# Altium schematic symbol library MF72-001P5D15.SchLib: 1 symbol
Pins are listed as number, name and electrical type; pins without a type are passive.

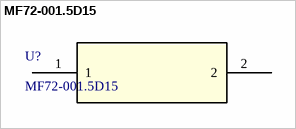
[diagram p0: symbol MF72-001.5D15]

## MF72-001.5D15
designator U?
Description; Manufacturer_Name: CANTHERM; Copyright: Copyright (C) 2026 Ultra Librarian. All rights reserved.; Manufacturer_Part_Number: MF72-001.5D15; RefDes: RefDes; Type: Type
footprint MF72-001.5D15_CTM
pins: 1, 2